# EAGLE library part DF11CZ-12DP (library connectors)
Hirose DF11 12-position connector
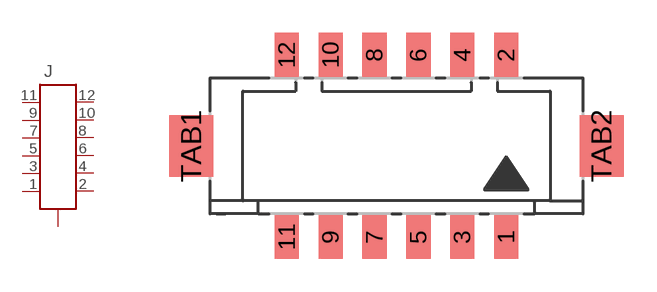
[diagram p5: symbol with the pads of DF11CZ-12DP; footprint DF11CZ-12DP]

Designator prefix J

## DF11CZ-12DP  [DF11CZ-12DP]
1  1
2  2
3  3
4  4
5  5
6  6
7  7
8  8
9  9
10  10
11  11
12  12
TAB1  TAB
TAB2  TAB

## Footprint DF11CZ-12DP (pad centres in mm)
smd 1.1 x 2: 1 5,-4.15; 2 5,4.15; 3 3,-4.15; 4 3,4.15; 5 1,-4.15; 6 1,4.15; 7 -1,-4.15; 8 -1,4.15; 9 -3,-4.15; 10 -3,4.15; 11 -5,-4.15; 12 -5,4.15
smd 2 x 2.8: TAB1 -9.35,0; TAB2 9.35,0